# Altium integrated library Linear Technology Power Management Power Control.IntLib: 661 symbols (part 3 of 43)
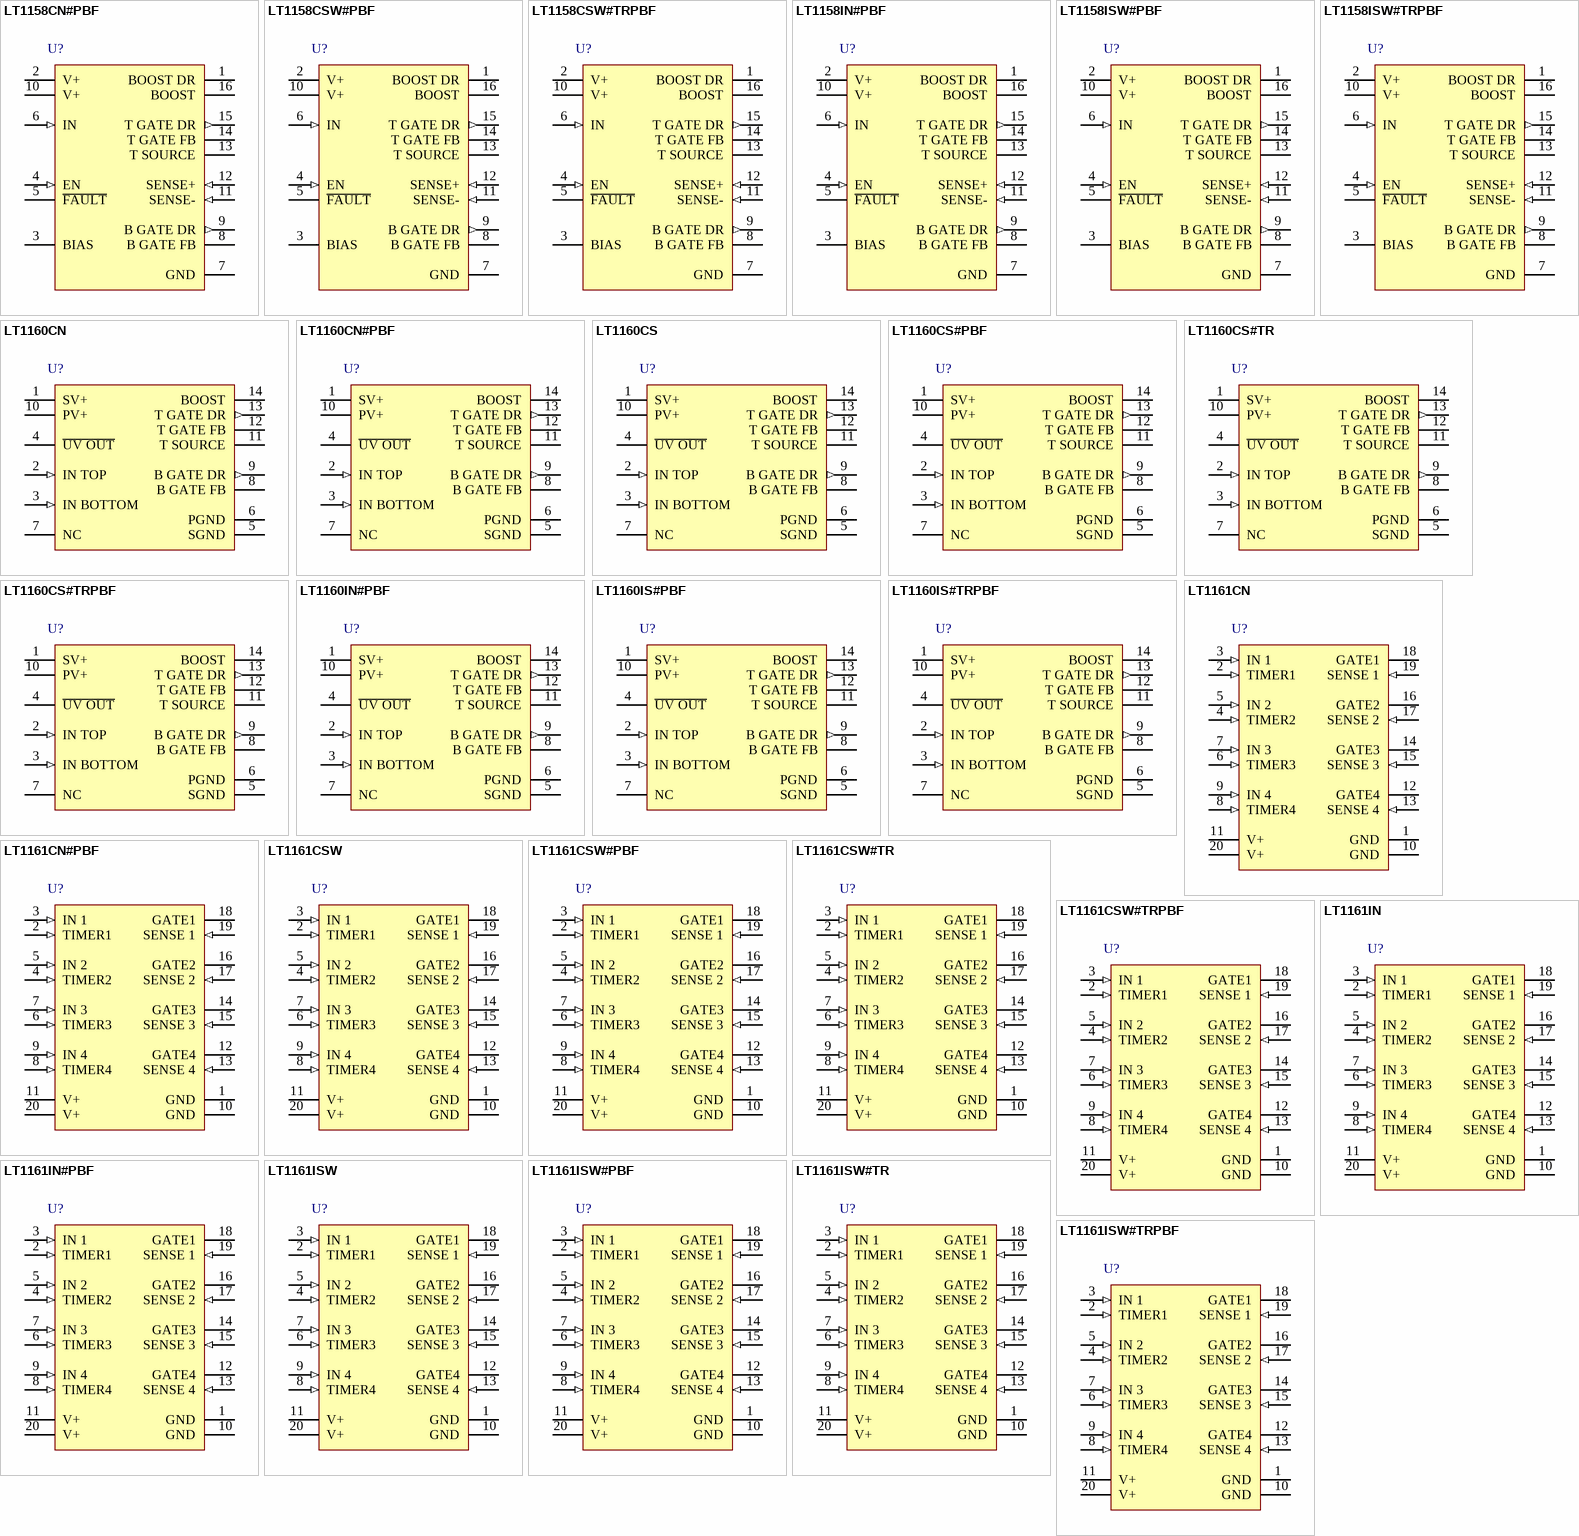
[diagram p21: symbols LT1158CN#PBF to LT1161ISW#TRPBF]

## LT1161ISW
designator U?
Quad Protected High-Side MOSFET Driver, 8 to 48 V Vin, 20-pin SOIC (SW-20), -40 to 85 degC; Manufacturer: Linear Technology; PartNumber: LT1161ISW; DatasheetVersion: Rev. A; PackageVersion: Jun-10; PackageReference: SW-20; PackageDescription: 20-Pin Plastic Small Outline, Body 12.80 x 7.49 mm, Pitch 1.27 mm; Supplier 1: Digi-Key; Supplier Part Number 1: LT1161ISW-ND; RoHS: FALSE; Mounting Technology: Surface Mount; ComponentLink1Description: Manufacturer URL; ComponentLink1URL: http://www.linear.com/; ComponentLink2Description: Datasheet; ComponentLink2URL: http://cds.linear.com/docs/en/datasheet/1161fa.pdf; ComponentLink3Description: Package Specification; ComponentLink3URL: http://cds.linear.com/docs/en/packaging/SO_20_05-08-1620.pdf
footprint LT-SW-20_N (SOIC, 20-Leads, Body 12.8x7.49mm, Pitch 1.27mm, IPC Medium Density)
footprint LT-SW-20_L (SOIC, 20-Leads, Body 12.8x7.49mm, Pitch 1.27mm, IPC High Density)
footprint LT-SW-20_M (SOIC, 20-Leads, Body 12.8x7.49mm, Pitch 1.27mm, IPC Low Density)
pins: 1 GND (power) "The two ground pins are internally connected and must also be externally connected.", 2 TIMER1 (in) "A timing capacitor CT from each timer pin to ground sets the restart time following overcurrent detection. CT is rapidly discharged to less than 1V and then recharged by a 14uA nominal current source back to the timer (See Datasheet)", 3 IN 1 (in) "The input pins are active high and each pin activates a separate internal charge pump when switched ON. The input threshold is TTL/CMOS compatible but may be taken as high as 15V with or without the supply powered. Each (See Datasheet)", 4 TIMER2 (in) "A timing capacitor CT from each timer pin to ground sets the restart time following overcurrent detection. CT is rapidly discharged to less than 1V and then recharged by a 14uA nominal current source back to the timer (See Datasheet)", 5 IN 2 (in) "The input pins are active high and each pin activates a separate internal charge pump when switched ON. The input threshold is TTL/CMOS compatible but may be taken as high as 15V with or without the supply powered. Each (See Datasheet)", 6 TIMER3 (in) "A timing capacitor CT from each timer pin to ground sets the restart time following overcurrent detection. CT is rapidly discharged to less than 1V and then recharged by a 14uA nominal current source back to the timer (See Datasheet)", 7 IN 3 (in) "The input pins are active high and each pin activates a separate internal charge pump when switched ON. The input threshold is TTL/CMOS compatible but may be taken as high as 15V with or without the supply powered. Each (See Datasheet)", 8 TIMER4 (in) "A timing capacitor CT from each timer pin to ground sets the restart time following overcurrent detection. CT is rapidly discharged to less than 1V and then recharged by a 14uA nominal current source back to the timer (See Datasheet)", 9 IN 4 (in) "The input pins are active high and each pin activates a separate internal charge pump when switched ON. The input threshold is TTL/CMOS compatible but may be taken as high as 15V with or without the supply powered. Each (See Datasheet)", 10 GND (power) "The two ground pins are internally connected and must also be externally connected.", 11 V+ (power) "The two supply pins are internally connected and must also be externally connected. In addition to providing the operating current for the LT1161, the supply pins also serve as the Kelvin connection for the current sense (See Datasheet)", 12 GATE4 (hiz) "The gate pins drive the power MOSFET gates. When an input is ON, the corresponding gate pin is pumped approximately 12V above the supply. These pins have a relatively high impedance when above the rail (theequivalent of a (See Datasheet)", 13 SENSE 4 (in) "Each sense pin connects to the input of asupply-referenced comparator with a 65mV nominal offset. When a sense pin is taken more than 65mV below supply, the MOSFET gate for that channel is driven low and the corresponding (See Datasheet)", 14 GATE3 (hiz) "The gate pins drive the power MOSFET gates. When an input is ON, the corresponding gate pin is pumped approximately 12V above the supply. These pins have a relatively high impedance when above the rail (theequivalent of a (See Datasheet)", 15 SENSE 3 (in) "Each sense pin connects to the input of asupply-referenced comparator with a 65mV nominal offset. When a sense pin is taken more than 65mV below supply, the MOSFET gate for that channel is driven low and the corresponding (See Datasheet)", 16 GATE2 (hiz) "The gate pins drive the power MOSFET gates. When an input is ON, the corresponding gate pin is pumped approximately 12V above the supply. These pins have a relatively high impedance when above the rail (theequivalent of a (See Datasheet)", 17 SENSE 2 (in) "Each sense pin connects to the input of asupply-referenced comparator with a 65mV nominal offset. When a sense pin is taken more than 65mV below supply, the MOSFET gate for that channel is driven low and the corresponding (See Datasheet)", 18 GATE1 (hiz) "The gate pins drive the power MOSFET gates. When an input is ON, the corresponding gate pin is pumped approximately 12V above the supply. These pins have a relatively high impedance when above the rail (theequivalent of a (See Datasheet)", 19 SENSE 1 (in) "Each sense pin connects to the input of asupply-referenced comparator with a 65mV nominal offset. When a sense pin is taken more than 65mV below supply, the MOSFET gate for that channel is driven low and the corresponding (See Datasheet)", 20 V+ (power) "The two supply pins are internally connected and must also be externally connected. In addition to providing the operating current for the LT1161, the supply pins also serve as the Kelvin connection for the current sense (See Datasheet)"

## LT1161ISW#PBF
designator U?
Quad Protected High-Side MOSFET Driver, 8 to 48 V Vin, 20-pin SOIC (SW-20), -40 to 85 degC, Pb-Free; Manufacturer: Linear Technology; PartNumber: LT1161ISW#PBF; DatasheetVersion: Rev. A; PackageVersion: Jun-10; PackageReference: SW-20; PackageDescription: 20-Pin Plastic Small Outline, Body 12.80 x 7.49 mm, Pitch 1.27 mm; Supplier 1: Digi-Key; Supplier Part Number 1: LT1161ISW#PBF-ND; Supplier 2: Farnell; Supplier Part Number 2: 2115820; Supplier 3: Newark; Supplier Part Number 3: 57M2271; RoHS: TRUE; Mounting Technology: Surface Mount; ComponentLink1Description: Manufacturer URL; ComponentLink1URL: http://www.linear.com/; ComponentLink2Description: Datasheet; ComponentLink2URL: http://cds.linear.com/docs/en/datasheet/1161fa.pdf; ComponentLink3Description: Package Specification; ComponentLink3URL: http://cds.linear.com/docs/en/packaging/SO_20_05-08-1620.pdf
footprint LT-SW-20_N (SOIC, 20-Leads, Body 12.8x7.49mm, Pitch 1.27mm, IPC Medium Density)
footprint LT-SW-20_L (SOIC, 20-Leads, Body 12.8x7.49mm, Pitch 1.27mm, IPC High Density)
footprint LT-SW-20_M (SOIC, 20-Leads, Body 12.8x7.49mm, Pitch 1.27mm, IPC Low Density)
pins: 1 GND (power) "The two ground pins are internally connected and must also be externally connected.", 2 TIMER1 (in) "A timing capacitor CT from each timer pin to ground sets the restart time following overcurrent detection. CT is rapidly discharged to less than 1V and then recharged by a 14uA nominal current source back to the timer (See Datasheet)", 3 IN 1 (in) "The input pins are active high and each pin activates a separate internal charge pump when switched ON. The input threshold is TTL/CMOS compatible but may be taken as high as 15V with or without the supply powered. Each (See Datasheet)", 4 TIMER2 (in) "A timing capacitor CT from each timer pin to ground sets the restart time following overcurrent detection. CT is rapidly discharged to less than 1V and then recharged by a 14uA nominal current source back to the timer (See Datasheet)", 5 IN 2 (in) "The input pins are active high and each pin activates a separate internal charge pump when switched ON. The input threshold is TTL/CMOS compatible but may be taken as high as 15V with or without the supply powered. Each (See Datasheet)", 6 TIMER3 (in) "A timing capacitor CT from each timer pin to ground sets the restart time following overcurrent detection. CT is rapidly discharged to less than 1V and then recharged by a 14uA nominal current source back to the timer (See Datasheet)", 7 IN 3 (in) "The input pins are active high and each pin activates a separate internal charge pump when switched ON. The input threshold is TTL/CMOS compatible but may be taken as high as 15V with or without the supply powered. Each (See Datasheet)", 8 TIMER4 (in) "A timing capacitor CT from each timer pin to ground sets the restart time following overcurrent detection. CT is rapidly discharged to less than 1V and then recharged by a 14uA nominal current source back to the timer (See Datasheet)", 9 IN 4 (in) "The input pins are active high and each pin activates a separate internal charge pump when switched ON. The input threshold is TTL/CMOS compatible but may be taken as high as 15V with or without the supply powered. Each (See Datasheet)", 10 GND (power) "The two ground pins are internally connected and must also be externally connected.", 11 V+ (power) "The two supply pins are internally connected and must also be externally connected. In addition to providing the operating current for the LT1161, the supply pins also serve as the Kelvin connection for the current sense (See Datasheet)", 12 GATE4 (hiz) "The gate pins drive the power MOSFET gates. When an input is ON, the corresponding gate pin is pumped approximately 12V above the supply. These pins have a relatively high impedance when above the rail (theequivalent of a (See Datasheet)", 13 SENSE 4 (in) "Each sense pin connects to the input of asupply-referenced comparator with a 65mV nominal offset. When a sense pin is taken more than 65mV below supply, the MOSFET gate for that channel is driven low and the corresponding (See Datasheet)", 14 GATE3 (hiz) "The gate pins drive the power MOSFET gates. When an input is ON, the corresponding gate pin is pumped approximately 12V above the supply. These pins have a relatively high impedance when above the rail (theequivalent of a (See Datasheet)", 15 SENSE 3 (in) "Each sense pin connects to the input of asupply-referenced comparator with a 65mV nominal offset. When a sense pin is taken more than 65mV below supply, the MOSFET gate for that channel is driven low and the corresponding (See Datasheet)", 16 GATE2 (hiz) "The gate pins drive the power MOSFET gates. When an input is ON, the corresponding gate pin is pumped approximately 12V above the supply. These pins have a relatively high impedance when above the rail (theequivalent of a (See Datasheet)", 17 SENSE 2 (in) "Each sense pin connects to the input of asupply-referenced comparator with a 65mV nominal offset. When a sense pin is taken more than 65mV below supply, the MOSFET gate for that channel is driven low and the corresponding (See Datasheet)", 18 GATE1 (hiz) "The gate pins drive the power MOSFET gates. When an input is ON, the corresponding gate pin is pumped approximately 12V above the supply. These pins have a relatively high impedance when above the rail (theequivalent of a (See Datasheet)", 19 SENSE 1 (in) "Each sense pin connects to the input of asupply-referenced comparator with a 65mV nominal offset. When a sense pin is taken more than 65mV below supply, the MOSFET gate for that channel is driven low and the corresponding (See Datasheet)", 20 V+ (power) "The two supply pins are internally connected and must also be externally connected. In addition to providing the operating current for the LT1161, the supply pins also serve as the Kelvin connection for the current sense (See Datasheet)"

## LT1161ISW#TR
designator U?
Quad Protected High-Side MOSFET Driver, 8 to 48 V Vin, 20-pin SOIC (SW-20), -40 to 85 degC, Tape and Reel; Manufacturer: Linear Technology; PartNumber: LT1161ISW#TR; DatasheetVersion: Rev. A; PackageVersion: Jun-10; PackageReference: SW-20; PackageDescription: 20-Pin Plastic Small Outline, Body 12.80 x 7.49 mm, Pitch 1.27 mm; Supplier 1: Digi-Key; Supplier Part Number 1: LT1161ISW#TR-ND; Supplier 2: Newark; Supplier Part Number 2: 57M2272; Packing: Tape and Reel; RoHS: FALSE; Mounting Technology: Surface Mount; ComponentLink1Description: Manufacturer URL; ComponentLink1URL: http://www.linear.com/; ComponentLink2Description: Datasheet; ComponentLink2URL: http://cds.linear.com/docs/en/datasheet/1161fa.pdf; ComponentLink3Description: Package Specification; ComponentLink3URL: http://cds.linear.com/docs/en/packaging/SO_20_05-08-1620.pdf
footprint LT-SW-20_N (SOIC, 20-Leads, Body 12.8x7.49mm, Pitch 1.27mm, IPC Medium Density)
footprint LT-SW-20_L (SOIC, 20-Leads, Body 12.8x7.49mm, Pitch 1.27mm, IPC High Density)
footprint LT-SW-20_M (SOIC, 20-Leads, Body 12.8x7.49mm, Pitch 1.27mm, IPC Low Density)
pins: 1 GND (power) "The two ground pins are internally connected and must also be externally connected.", 2 TIMER1 (in) "A timing capacitor CT from each timer pin to ground sets the restart time following overcurrent detection. CT is rapidly discharged to less than 1V and then recharged by a 14uA nominal current source back to the timer (See Datasheet)", 3 IN 1 (in) "The input pins are active high and each pin activates a separate internal charge pump when switched ON. The input threshold is TTL/CMOS compatible but may be taken as high as 15V with or without the supply powered. Each (See Datasheet)", 4 TIMER2 (in) "A timing capacitor CT from each timer pin to ground sets the restart time following overcurrent detection. CT is rapidly discharged to less than 1V and then recharged by a 14uA nominal current source back to the timer (See Datasheet)", 5 IN 2 (in) "The input pins are active high and each pin activates a separate internal charge pump when switched ON. The input threshold is TTL/CMOS compatible but may be taken as high as 15V with or without the supply powered. Each (See Datasheet)", 6 TIMER3 (in) "A timing capacitor CT from each timer pin to ground sets the restart time following overcurrent detection. CT is rapidly discharged to less than 1V and then recharged by a 14uA nominal current source back to the timer (See Datasheet)", 7 IN 3 (in) "The input pins are active high and each pin activates a separate internal charge pump when switched ON. The input threshold is TTL/CMOS compatible but may be taken as high as 15V with or without the supply powered. Each (See Datasheet)", 8 TIMER4 (in) "A timing capacitor CT from each timer pin to ground sets the restart time following overcurrent detection. CT is rapidly discharged to less than 1V and then recharged by a 14uA nominal current source back to the timer (See Datasheet)", 9 IN 4 (in) "The input pins are active high and each pin activates a separate internal charge pump when switched ON. The input threshold is TTL/CMOS compatible but may be taken as high as 15V with or without the supply powered. Each (See Datasheet)", 10 GND (power) "The two ground pins are internally connected and must also be externally connected.", 11 V+ (power) "The two supply pins are internally connected and must also be externally connected. In addition to providing the operating current for the LT1161, the supply pins also serve as the Kelvin connection for the current sense (See Datasheet)", 12 GATE4 (hiz) "The gate pins drive the power MOSFET gates. When an input is ON, the corresponding gate pin is pumped approximately 12V above the supply. These pins have a relatively high impedance when above the rail (theequivalent of a (See Datasheet)", 13 SENSE 4 (in) "Each sense pin connects to the input of asupply-referenced comparator with a 65mV nominal offset. When a sense pin is taken more than 65mV below supply, the MOSFET gate for that channel is driven low and the corresponding (See Datasheet)", 14 GATE3 (hiz) "The gate pins drive the power MOSFET gates. When an input is ON, the corresponding gate pin is pumped approximately 12V above the supply. These pins have a relatively high impedance when above the rail (theequivalent of a (See Datasheet)", 15 SENSE 3 (in) "Each sense pin connects to the input of asupply-referenced comparator with a 65mV nominal offset. When a sense pin is taken more than 65mV below supply, the MOSFET gate for that channel is driven low and the corresponding (See Datasheet)", 16 GATE2 (hiz) "The gate pins drive the power MOSFET gates. When an input is ON, the corresponding gate pin is pumped approximately 12V above the supply. These pins have a relatively high impedance when above the rail (theequivalent of a (See Datasheet)", 17 SENSE 2 (in) "Each sense pin connects to the input of asupply-referenced comparator with a 65mV nominal offset. When a sense pin is taken more than 65mV below supply, the MOSFET gate for that channel is driven low and the corresponding (See Datasheet)", 18 GATE1 (hiz) "The gate pins drive the power MOSFET gates. When an input is ON, the corresponding gate pin is pumped approximately 12V above the supply. These pins have a relatively high impedance when above the rail (theequivalent of a (See Datasheet)", 19 SENSE 1 (in) "Each sense pin connects to the input of asupply-referenced comparator with a 65mV nominal offset. When a sense pin is taken more than 65mV below supply, the MOSFET gate for that channel is driven low and the corresponding (See Datasheet)", 20 V+ (power) "The two supply pins are internally connected and must also be externally connected. In addition to providing the operating current for the LT1161, the supply pins also serve as the Kelvin connection for the current sense (See Datasheet)"

## LT1161ISW#TRPBF
designator U?
Quad Protected High-Side MOSFET Driver, 8 to 48 V Vin, 20-pin SOIC (SW-20), -40 to 85 degC, Pb-Free, Tape and Reel; Manufacturer: Linear Technology; PartNumber: LT1161ISW#TRPBF; DatasheetVersion: Rev. A; PackageVersion: Jun-10; PackageReference: SW-20; PackageDescription: 20-Pin Plastic Small Outline, Body 12.80 x 7.49 mm, Pitch 1.27 mm; Supplier 1: Digi-Key; Supplier Part Number 1: LT1161ISW#TRPBF-ND; Supplier 2: Newark; Supplier Part Number 2: 57M2273; Packing: Tape and Reel; RoHS: TRUE; Mounting Technology: Surface Mount; ComponentLink1Description: Manufacturer URL; ComponentLink1URL: http://www.linear.com/; ComponentLink2Description: Datasheet; ComponentLink2URL: http://cds.linear.com/docs/en/datasheet/1161fa.pdf; ComponentLink3Description: Package Specification; ComponentLink3URL: http://cds.linear.com/docs/en/packaging/SO_20_05-08-1620.pdf
footprint LT-SW-20_N (SOIC, 20-Leads, Body 12.8x7.49mm, Pitch 1.27mm, IPC Medium Density)
footprint LT-SW-20_L (SOIC, 20-Leads, Body 12.8x7.49mm, Pitch 1.27mm, IPC High Density)
footprint LT-SW-20_M (SOIC, 20-Leads, Body 12.8x7.49mm, Pitch 1.27mm, IPC Low Density)
pins: 1 GND (power) "The two ground pins are internally connected and must also be externally connected.", 2 TIMER1 (in) "A timing capacitor CT from each timer pin to ground sets the restart time following overcurrent detection. CT is rapidly discharged to less than 1V and then recharged by a 14uA nominal current source back to the timer (See Datasheet)", 3 IN 1 (in) "The input pins are active high and each pin activates a separate internal charge pump when switched ON. The input threshold is TTL/CMOS compatible but may be taken as high as 15V with or without the supply powered. Each (See Datasheet)", 4 TIMER2 (in) "A timing capacitor CT from each timer pin to ground sets the restart time following overcurrent detection. CT is rapidly discharged to less than 1V and then recharged by a 14uA nominal current source back to the timer (See Datasheet)", 5 IN 2 (in) "The input pins are active high and each pin activates a separate internal charge pump when switched ON. The input threshold is TTL/CMOS compatible but may be taken as high as 15V with or without the supply powered. Each (See Datasheet)", 6 TIMER3 (in) "A timing capacitor CT from each timer pin to ground sets the restart time following overcurrent detection. CT is rapidly discharged to less than 1V and then recharged by a 14uA nominal current source back to the timer (See Datasheet)", 7 IN 3 (in) "The input pins are active high and each pin activates a separate internal charge pump when switched ON. The input threshold is TTL/CMOS compatible but may be taken as high as 15V with or without the supply powered. Each (See Datasheet)", 8 TIMER4 (in) "A timing capacitor CT from each timer pin to ground sets the restart time following overcurrent detection. CT is rapidly discharged to less than 1V and then recharged by a 14uA nominal current source back to the timer (See Datasheet)", 9 IN 4 (in) "The input pins are active high and each pin activates a separate internal charge pump when switched ON. The input threshold is TTL/CMOS compatible but may be taken as high as 15V with or without the supply powered. Each (See Datasheet)", 10 GND (power) "The two ground pins are internally connected and must also be externally connected.", 11 V+ (power) "The two supply pins are internally connected and must also be externally connected. In addition to providing the operating current for the LT1161, the supply pins also serve as the Kelvin connection for the current sense (See Datasheet)", 12 GATE4 (hiz) "The gate pins drive the power MOSFET gates. When an input is ON, the corresponding gate pin is pumped approximately 12V above the supply. These pins have a relatively high impedance when above the rail (theequivalent of a (See Datasheet)", 13 SENSE 4 (in) "Each sense pin connects to the input of asupply-referenced comparator with a 65mV nominal offset. When a sense pin is taken more than 65mV below supply, the MOSFET gate for that channel is driven low and the corresponding (See Datasheet)", 14 GATE3 (hiz) "The gate pins drive the power MOSFET gates. When an input is ON, the corresponding gate pin is pumped approximately 12V above the supply. These pins have a relatively high impedance when above the rail (theequivalent of a (See Datasheet)", 15 SENSE 3 (in) "Each sense pin connects to the input of asupply-referenced comparator with a 65mV nominal offset. When a sense pin is taken more than 65mV below supply, the MOSFET gate for that channel is driven low and the corresponding (See Datasheet)", 16 GATE2 (hiz) "The gate pins drive the power MOSFET gates. When an input is ON, the corresponding gate pin is pumped approximately 12V above the supply. These pins have a relatively high impedance when above the rail (theequivalent of a (See Datasheet)", 17 SENSE 2 (in) "Each sense pin connects to the input of asupply-referenced comparator with a 65mV nominal offset. When a sense pin is taken more than 65mV below supply, the MOSFET gate for that channel is driven low and the corresponding (See Datasheet)", 18 GATE1 (hiz) "The gate pins drive the power MOSFET gates. When an input is ON, the corresponding gate pin is pumped approximately 12V above the supply. These pins have a relatively high impedance when above the rail (theequivalent of a (See Datasheet)", 19 SENSE 1 (in) "Each sense pin connects to the input of asupply-referenced comparator with a 65mV nominal offset. When a sense pin is taken more than 65mV below supply, the MOSFET gate for that channel is driven low and the corresponding (See Datasheet)", 20 V+ (power) "The two supply pins are internally connected and must also be externally connected. In addition to providing the operating current for the LT1161, the supply pins also serve as the Kelvin connection for the current sense (See Datasheet)"

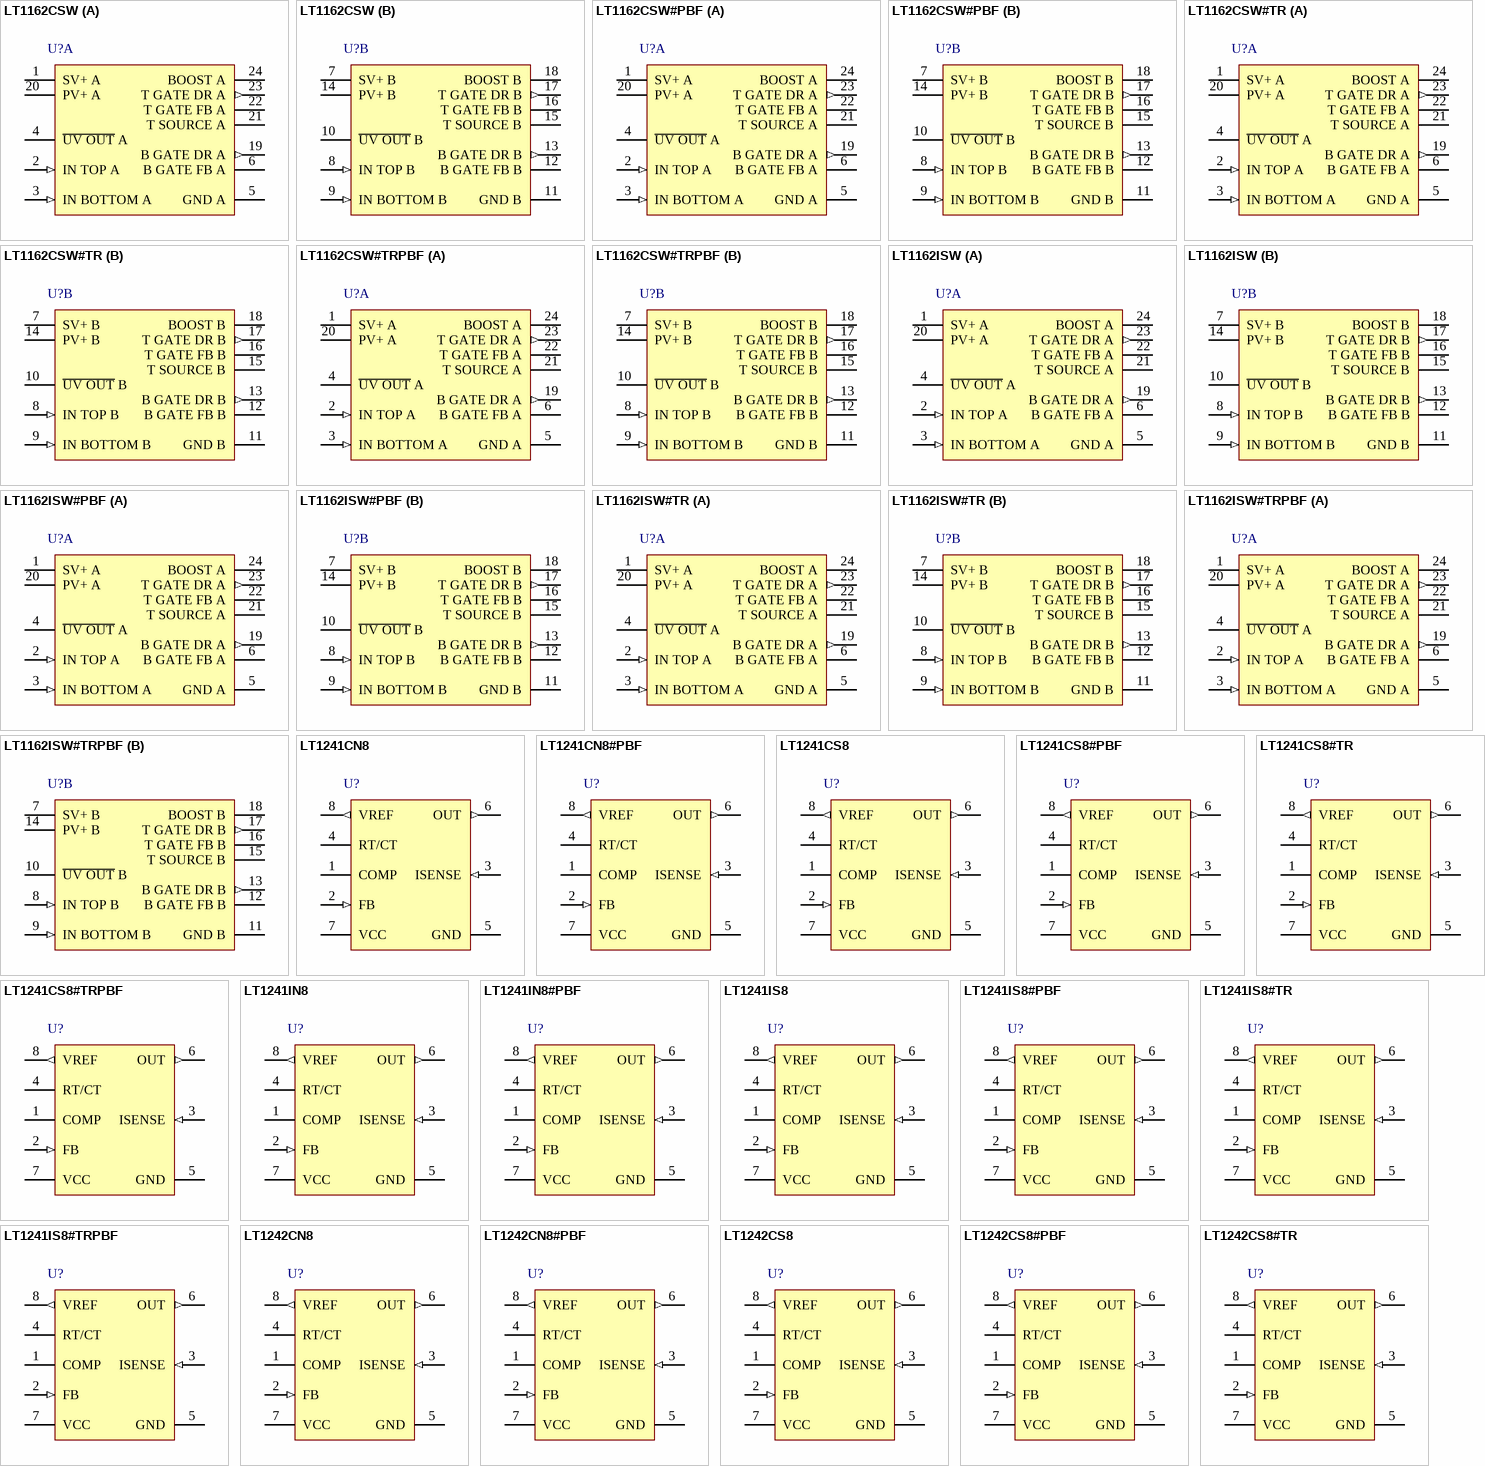
[diagram p1: symbols LT1162CSW to LT1242CS8#TR]

## LT1162CSW
designator U?
Input UV Lockout, High Side Gate Drive UV Lockout, 8 to 60 V Vin, 24-pin SOIC (SW-24), 0 to 70 degC; Manufacturer: Linear Technology; PartNumber: LT1162CSW; DatasheetVersion: Rev. B; PackageVersion: Jun-10; PackageReference: SW-24; PackageDescription: 24-Pin Plastic Small Outline, Body 15.395 x 7.493 mm, Pitch 1.27 mm; Supplier 1: Digi-Key; Supplier Part Number 1: LT1162CSW-ND; RoHS: FALSE; Mounting Technology: Surface Mount; ComponentLink1Description: Manufacturer URL; ComponentLink1URL: http://www.linear.com/; ComponentLink2Description: Datasheet; ComponentLink2URL: http://cds.linear.com/docs/en/datasheet/11602fb.pdf; ComponentLink3Description: Package Specification; ComponentLink3URL: http://cds.linear.com/docs/Packaging/SO_24_05-08-1620.pdf
footprint LT-SW-24_N (SOIC, 24-Leads, Body 15.6x7.6mm, Pitch 1.27mm, IPC Medium Density)
footprint LT-SW-24_L (SOIC, 24-Leads, Body 15.6x7.6mm, Pitch 1.27mm, IPC High Density)
footprint LT-SW-24_M (SOIC, 24-Leads, Body 15.6x7.6mm, Pitch 1.27mm, IPC Low Density)
part A pins: 1 SV+ A (power) "Main Signal Supply. Must be closely decoupled to ground Pins 5 and 11.", 2 IN TOP A (in) "Top Driver Input. The Input Top is disabled when the Input Bottom is high. A 3 k input resistor followed by a 5 V internal clamp prevents saturation of the input transistors.", 3 IN BOTTOM A (in) "Bottom Driver Input. The Input Bottom is disabled when the Input Top is high. A 3 k input resistor followed by a 5 V internal clamp prevents satura- tion of the input transistors.", 4 ~{UV OUT} A (oc) "Undervoltage Output. Open collector NPN output which turns on when V+ drops below the undervoltage threshold.", 5 GND A (power) "Ground Connection.", 6 B GATE FB A "Bottom Gate Feedback. Must connect directly to the bottom power MOSFET gate. The top MOSFET turn-on is inhibited until Bottom Gate Feed- back pins have discharged to below 2.5 V.", 19 B GATE DR A (out) "Bottom Gate Drive. The high current drive point for the bottom MOSFET. When a gate resistor is used it is inserted between the Bottom Gate Drive pin and the gate of the MOSFET.", 20 PV+ A (power) "Bottom Driver Supply. Must be con- nected to the same supply as Pins 1 and 7.", 21 T SOURCE A "Top Driver Return. Connects to the top MOSFET source and the low side of the bootstrap capacitor.", 22 T GATE FB A "Top Gate Feedback. Must connect directly to the top power MOSFET gate. The bottom MOSFET turn-on is inhibited until V TGF  - V TSOURCE has discharged to below 2.9 V.", 23 T GATE DR A (out) "Top Gate Drive. The high current drive point for the top MOSFET. When a gate resistor is used it is inserted between the Top Gate Drive pin and the gate of the MOSFET.", 24 BOOST A "Top Driver Supply. Connects to the high side of the bootstrap capacitor."
part B pins: 7 SV+ B (power) "Main Signal Supply. Must be closely decoupled to ground Pins 5 and 11.", 8 IN TOP B (in) "Top Driver Input. The Input Top is disabled when the Input Bottom is high. A 3 k input resistor followed by a 5 V internal clamp prevents saturation of the input transistors.", 9 IN BOTTOM B (in) "Bottom Driver Input. The Input Bottom is disabled when the Input Top is high. A 3 k input resistor followed by a 5 V internal clamp prevents satura- tion of the input transistors.", 10 ~{UV OUT} B (oc) "Undervoltage Output. Open collector NPN output which turns on when V+ drops below the undervoltage threshold.", 11 GND B (power) "Ground Connection.", 12 B GATE FB B "Bottom Gate Feedback. Must connect directly to the bottom power MOSFET gate. The top MOSFET turn-on is inhibited until Bottom Gate Feed- back pins have discharged to below 2.5 V.", 13 B GATE DR B (out) "Bottom Gate Drive. The high current drive point for the bottom MOSFET. When a gate resistor is used it is inserted between the Bottom Gate Drive pin and the gate of the MOSFET.", 14 PV+ B (power) "Bottom Driver Supply. Must be con- nected to the same supply as Pins 1 and 7.", 15 T SOURCE B "Top Driver Return. Connects to the top MOSFET source and the low side of the bootstrap capacitor.", 16 T GATE FB B "Top Gate Feedback. Must connect directly to the top power MOSFET gate. The bottom MOSFET turn-on is inhibited until V TGF  - V TSOURCE has discharged to below 2.9 V.", 17 T GATE DR B (out) "Top Gate Drive. The high current drive point for the top MOSFET. When a gate resistor is used it is inserted between the Top Gate Drive pin and the gate of the MOSFET.", 18 BOOST B "Top Driver Supply. Connects to the high side of the bootstrap capacitor."

## LT1162CSW#PBF
designator U?
Input UV Lockout, High Side Gate Drive UV Lockout, 8 to 60 V Vin, 24-pin SOIC (SW-24), 0 to 70 degC, Pb-Free; Manufacturer: Linear Technology; PartNumber: LT1162CSW#PBF; DatasheetVersion: Rev. B; PackageVersion: Jun-10; PackageReference: SW-24; PackageDescription: 24-Pin Plastic Small Outline, Body 15.395 x 7.493 mm, Pitch 1.27 mm; Supplier 1: Digi-Key; Supplier Part Number 1: LT1162CSW#PBF-ND; Supplier 2: Farnell; Supplier Part Number 2: 1273477; Supplier 3: Newark; Supplier Part Number 3: 57M2275; RoHS: TRUE; Mounting Technology: Surface Mount; ComponentLink1Description: Manufacturer URL; ComponentLink1URL: http://www.linear.com/; ComponentLink2Description: Datasheet; ComponentLink2URL: http://cds.linear.com/docs/en/datasheet/11602fb.pdf; ComponentLink3Description: Package Specification; ComponentLink3URL: http://cds.linear.com/docs/Packaging/SO_24_05-08-1620.pdf
footprint LT-SW-24_N (SOIC, 24-Leads, Body 15.6x7.6mm, Pitch 1.27mm, IPC Medium Density)
footprint LT-SW-24_L (SOIC, 24-Leads, Body 15.6x7.6mm, Pitch 1.27mm, IPC High Density)
footprint LT-SW-24_M (SOIC, 24-Leads, Body 15.6x7.6mm, Pitch 1.27mm, IPC Low Density)
part A pins: 1 SV+ A (power) "Main Signal Supply. Must be closely decoupled to ground Pins 5 and 11.", 2 IN TOP A (in) "Top Driver Input. The Input Top is disabled when the Input Bottom is high. A 3 k input resistor followed by a 5 V internal clamp prevents saturation of the input transistors.", 3 IN BOTTOM A (in) "Bottom Driver Input. The Input Bottom is disabled when the Input Top is high. A 3 k input resistor followed by a 5 V internal clamp prevents satura- tion of the input transistors.", 4 ~{UV OUT} A (oc) "Undervoltage Output. Open collector NPN output which turns on when V+ drops below the undervoltage threshold.", 5 GND A (power) "Ground Connection.", 6 B GATE FB A "Bottom Gate Feedback. Must connect directly to the bottom power MOSFET gate. The top MOSFET turn-on is inhibited until Bottom Gate Feed- back pins have discharged to below 2.5 V.", 19 B GATE DR A (out) "Bottom Gate Drive. The high current drive point for the bottom MOSFET. When a gate resistor is used it is inserted between the Bottom Gate Drive pin and the gate of the MOSFET.", 20 PV+ A (power) "Bottom Driver Supply. Must be con- nected to the same supply as Pins 1 and 7.", 21 T SOURCE A "Top Driver Return. Connects to the top MOSFET source and the low side of the bootstrap capacitor.", 22 T GATE FB A "Top Gate Feedback. Must connect directly to the top power MOSFET gate. The bottom MOSFET turn-on is inhibited until V TGF  - V TSOURCE has discharged to below 2.9 V.", 23 T GATE DR A (out) "Top Gate Drive. The high current drive point for the top MOSFET. When a gate resistor is used it is inserted between the Top Gate Drive pin and the gate of the MOSFET.", 24 BOOST A "Top Driver Supply. Connects to the high side of the bootstrap capacitor."
part B pins: 7 SV+ B (power) "Main Signal Supply. Must be closely decoupled to ground Pins 5 and 11.", 8 IN TOP B (in) "Top Driver Input. The Input Top is disabled when the Input Bottom is high. A 3 k input resistor followed by a 5 V internal clamp prevents saturation of the input transistors.", 9 IN BOTTOM B (in) "Bottom Driver Input. The Input Bottom is disabled when the Input Top is high. A 3 k input resistor followed by a 5 V internal clamp prevents satura- tion of the input transistors.", 10 ~{UV OUT} B (oc) "Undervoltage Output. Open collector NPN output which turns on when V+ drops below the undervoltage threshold.", 11 GND B (power) "Ground Connection.", 12 B GATE FB B "Bottom Gate Feedback. Must connect directly to the bottom power MOSFET gate. The top MOSFET turn-on is inhibited until Bottom Gate Feed- back pins have discharged to below 2.5 V.", 13 B GATE DR B (out) "Bottom Gate Drive. The high current drive point for the bottom MOSFET. When a gate resistor is used it is inserted between the Bottom Gate Drive pin and the gate of the MOSFET.", 14 PV+ B (power) "Bottom Driver Supply. Must be con- nected to the same supply as Pins 1 and 7.", 15 T SOURCE B "Top Driver Return. Connects to the top MOSFET source and the low side of the bootstrap capacitor.", 16 T GATE FB B "Top Gate Feedback. Must connect directly to the top power MOSFET gate. The bottom MOSFET turn-on is inhibited until V TGF  - V TSOURCE has discharged to below 2.9 V.", 17 T GATE DR B (out) "Top Gate Drive. The high current drive point for the top MOSFET. When a gate resistor is used it is inserted between the Top Gate Drive pin and the gate of the MOSFET.", 18 BOOST B "Top Driver Supply. Connects to the high side of the bootstrap capacitor."

## LT1162CSW#TR
designator U?
Input UV Lockout, High Side Gate Drive UV Lockout, 8 to 60 V Vin, 24-pin SOIC (SW-24), 0 to 70 degC, Tape and Reel; Manufacturer: Linear Technology; PartNumber: LT1162CSW#TR; DatasheetVersion: Rev. B; PackageVersion: Jun-10; PackageReference: SW-24; PackageDescription: 24-Pin Plastic Small Outline, Body 15.395 x 7.493 mm, Pitch 1.27 mm; Supplier 1: Digi-Key; Supplier Part Number 1: LT1162CSW#TR-ND; Packing: Tape and Reel; RoHS: FALSE; Mounting Technology: Surface Mount; ComponentLink1Description: Manufacturer URL; ComponentLink1URL: http://www.linear.com/; ComponentLink2Description: Datasheet; ComponentLink2URL: http://cds.linear.com/docs/en/datasheet/11602fb.pdf; ComponentLink3Description: Package Specification; ComponentLink3URL: http://cds.linear.com/docs/Packaging/SO_24_05-08-1620.pdf
footprint LT-SW-24_N (SOIC, 24-Leads, Body 15.6x7.6mm, Pitch 1.27mm, IPC Medium Density)
footprint LT-SW-24_L (SOIC, 24-Leads, Body 15.6x7.6mm, Pitch 1.27mm, IPC High Density)
footprint LT-SW-24_M (SOIC, 24-Leads, Body 15.6x7.6mm, Pitch 1.27mm, IPC Low Density)
part A pins: 1 SV+ A (power) "Main Signal Supply. Must be closely decoupled to ground Pins 5 and 11.", 2 IN TOP A (in) "Top Driver Input. The Input Top is disabled when the Input Bottom is high. A 3 k input resistor followed by a 5 V internal clamp prevents saturation of the input transistors.", 3 IN BOTTOM A (in) "Bottom Driver Input. The Input Bottom is disabled when the Input Top is high. A 3 k input resistor followed by a 5 V internal clamp prevents satura- tion of the input transistors.", 4 ~{UV OUT} A (oc) "Undervoltage Output. Open collector NPN output which turns on when V+ drops below the undervoltage threshold.", 5 GND A (power) "Ground Connection.", 6 B GATE FB A "Bottom Gate Feedback. Must connect directly to the bottom power MOSFET gate. The top MOSFET turn-on is inhibited until Bottom Gate Feed- back pins have discharged to below 2.5 V.", 19 B GATE DR A (out) "Bottom Gate Drive. The high current drive point for the bottom MOSFET. When a gate resistor is used it is inserted between the Bottom Gate Drive pin and the gate of the MOSFET.", 20 PV+ A (power) "Bottom Driver Supply. Must be con- nected to the same supply as Pins 1 and 7.", 21 T SOURCE A "Top Driver Return. Connects to the top MOSFET source and the low side of the bootstrap capacitor.", 22 T GATE FB A "Top Gate Feedback. Must connect directly to the top power MOSFET gate. The bottom MOSFET turn-on is inhibited until V TGF  - V TSOURCE has discharged to below 2.9 V.", 23 T GATE DR A (out) "Top Gate Drive. The high current drive point for the top MOSFET. When a gate resistor is used it is inserted between the Top Gate Drive pin and the gate of the MOSFET.", 24 BOOST A "Top Driver Supply. Connects to the high side of the bootstrap capacitor."
part B pins: 7 SV+ B (power) "Main Signal Supply. Must be closely decoupled to ground Pins 5 and 11.", 8 IN TOP B (in) "Top Driver Input. The Input Top is disabled when the Input Bottom is high. A 3 k input resistor followed by a 5 V internal clamp prevents saturation of the input transistors.", 9 IN BOTTOM B (in) "Bottom Driver Input. The Input Bottom is disabled when the Input Top is high. A 3 k input resistor followed by a 5 V internal clamp prevents satura- tion of the input transistors.", 10 ~{UV OUT} B (oc) "Undervoltage Output. Open collector NPN output which turns on when V+ drops below the undervoltage threshold.", 11 GND B (power) "Ground Connection.", 12 B GATE FB B "Bottom Gate Feedback. Must connect directly to the bottom power MOSFET gate. The top MOSFET turn-on is inhibited until Bottom Gate Feed- back pins have discharged to below 2.5 V.", 13 B GATE DR B (out) "Bottom Gate Drive. The high current drive point for the bottom MOSFET. When a gate resistor is used it is inserted between the Bottom Gate Drive pin and the gate of the MOSFET.", 14 PV+ B (power) "Bottom Driver Supply. Must be con- nected to the same supply as Pins 1 and 7.", 15 T SOURCE B "Top Driver Return. Connects to the top MOSFET source and the low side of the bootstrap capacitor.", 16 T GATE FB B "Top Gate Feedback. Must connect directly to the top power MOSFET gate. The bottom MOSFET turn-on is inhibited until V TGF  - V TSOURCE has discharged to below 2.9 V.", 17 T GATE DR B (out) "Top Gate Drive. The high current drive point for the top MOSFET. When a gate resistor is used it is inserted between the Top Gate Drive pin and the gate of the MOSFET.", 18 BOOST B "Top Driver Supply. Connects to the high side of the bootstrap capacitor."

## LT1162CSW#TRPBF
designator U?
Input UV Lockout, High Side Gate Drive UV Lockout, 8 to 60 V Vin, 24-pin SOIC (SW-24), 0 to 70 degC, Pb-Free, Tape and Reel; Manufacturer: Linear Technology; PartNumber: LT1162CSW#TRPBF; DatasheetVersion: Rev. B; PackageVersion: Jun-10; PackageReference: SW-24; PackageDescription: 24-Pin Plastic Small Outline, Body 15.395 x 7.493 mm, Pitch 1.27 mm; Supplier 1: Digi-Key; Supplier Part Number 1: LT1162CSW#TRPBF-ND; Supplier 2: Newark; Supplier Part Number 2: 57M2277; Packing: Tape and Reel; RoHS: TRUE; Mounting Technology: Surface Mount; ComponentLink1Description: Manufacturer URL; ComponentLink1URL: http://www.linear.com/; ComponentLink2Description: Datasheet; ComponentLink2URL: http://cds.linear.com/docs/en/datasheet/11602fb.pdf; ComponentLink3Description: Package Specification; ComponentLink3URL: http://cds.linear.com/docs/Packaging/SO_24_05-08-1620.pdf
footprint LT-SW-24_N (SOIC, 24-Leads, Body 15.6x7.6mm, Pitch 1.27mm, IPC Medium Density)
footprint LT-SW-24_L (SOIC, 24-Leads, Body 15.6x7.6mm, Pitch 1.27mm, IPC High Density)
footprint LT-SW-24_M (SOIC, 24-Leads, Body 15.6x7.6mm, Pitch 1.27mm, IPC Low Density)
part A pins: 1 SV+ A (power) "Main Signal Supply. Must be closely decoupled to ground Pins 5 and 11.", 2 IN TOP A (in) "Top Driver Input. The Input Top is disabled when the Input Bottom is high. A 3 k input resistor followed by a 5 V internal clamp prevents saturation of the input transistors.", 3 IN BOTTOM A (in) "Bottom Driver Input. The Input Bottom is disabled when the Input Top is high. A 3 k input resistor followed by a 5 V internal clamp prevents satura- tion of the input transistors.", 4 ~{UV OUT} A (oc) "Undervoltage Output. Open collector NPN output which turns on when V+ drops below the undervoltage threshold.", 5 GND A (power) "Ground Connection.", 6 B GATE FB A "Bottom Gate Feedback. Must connect directly to the bottom power MOSFET gate. The top MOSFET turn-on is inhibited until Bottom Gate Feed- back pins have discharged to below 2.5 V.", 19 B GATE DR A (out) "Bottom Gate Drive. The high current drive point for the bottom MOSFET. When a gate resistor is used it is inserted between the Bottom Gate Drive pin and the gate of the MOSFET.", 20 PV+ A (power) "Bottom Driver Supply. Must be con- nected to the same supply as Pins 1 and 7.", 21 T SOURCE A "Top Driver Return. Connects to the top MOSFET source and the low side of the bootstrap capacitor.", 22 T GATE FB A "Top Gate Feedback. Must connect directly to the top power MOSFET gate. The bottom MOSFET turn-on is inhibited until V TGF  - V TSOURCE has discharged to below 2.9 V.", 23 T GATE DR A (out) "Top Gate Drive. The high current drive point for the top MOSFET. When a gate resistor is used it is inserted between the Top Gate Drive pin and the gate of the MOSFET.", 24 BOOST A "Top Driver Supply. Connects to the high side of the bootstrap capacitor."
part B pins: 7 SV+ B (power) "Main Signal Supply. Must be closely decoupled to ground Pins 5 and 11.", 8 IN TOP B (in) "Top Driver Input. The Input Top is disabled when the Input Bottom is high. A 3 k input resistor followed by a 5 V internal clamp prevents saturation of the input transistors.", 9 IN BOTTOM B (in) "Bottom Driver Input. The Input Bottom is disabled when the Input Top is high. A 3 k input resistor followed by a 5 V internal clamp prevents satura- tion of the input transistors.", 10 ~{UV OUT} B (oc) "Undervoltage Output. Open collector NPN output which turns on when V+ drops below the undervoltage threshold.", 11 GND B (power) "Ground Connection.", 12 B GATE FB B "Bottom Gate Feedback. Must connect directly to the bottom power MOSFET gate. The top MOSFET turn-on is inhibited until Bottom Gate Feed- back pins have discharged to below 2.5 V.", 13 B GATE DR B (out) "Bottom Gate Drive. The high current drive point for the bottom MOSFET. When a gate resistor is used it is inserted between the Bottom Gate Drive pin and the gate of the MOSFET.", 14 PV+ B (power) "Bottom Driver Supply. Must be con- nected to the same supply as Pins 1 and 7.", 15 T SOURCE B "Top Driver Return. Connects to the top MOSFET source and the low side of the bootstrap capacitor.", 16 T GATE FB B "Top Gate Feedback. Must connect directly to the top power MOSFET gate. The bottom MOSFET turn-on is inhibited until V TGF  - V TSOURCE has discharged to below 2.9 V.", 17 T GATE DR B (out) "Top Gate Drive. The high current drive point for the top MOSFET. When a gate resistor is used it is inserted between the Top Gate Drive pin and the gate of the MOSFET.", 18 BOOST B "Top Driver Supply. Connects to the high side of the bootstrap capacitor."

## LT1162ISW
designator U?
Input UV Lockout, High Side Gate Drive UV Lockout, 8 to 60 V Vin, 24-pin SOIC (SW-24), -40 to 85 degC; Manufacturer: Linear Technology; PartNumber: LT1162ISW; DatasheetVersion: Rev. B; PackageVersion: Jun-10; PackageReference: SW-24; PackageDescription: 24-Pin Plastic Small Outline, Body 15.395 x 7.493 mm, Pitch 1.27 mm; Supplier 1: Digi-Key; Supplier Part Number 1: LT1162ISW-ND; RoHS: FALSE; Mounting Technology: Surface Mount; ComponentLink1Description: Manufacturer URL; ComponentLink1URL: http://www.linear.com/; ComponentLink2Description: Datasheet; ComponentLink2URL: http://cds.linear.com/docs/en/datasheet/11602fb.pdf; ComponentLink3Description: Package Specification; ComponentLink3URL: http://cds.linear.com/docs/Packaging/SO_24_05-08-1620.pdf
footprint LT-SW-24_N (SOIC, 24-Leads, Body 15.6x7.6mm, Pitch 1.27mm, IPC Medium Density)
footprint LT-SW-24_L (SOIC, 24-Leads, Body 15.6x7.6mm, Pitch 1.27mm, IPC High Density)
footprint LT-SW-24_M (SOIC, 24-Leads, Body 15.6x7.6mm, Pitch 1.27mm, IPC Low Density)
part A pins: 1 SV+ A (power) "Main Signal Supply. Must be closely decoupled to ground Pins 5 and 11.", 2 IN TOP A (in) "Top Driver Input. The Input Top is disabled when the Input Bottom is high. A 3 k input resistor followed by a 5 V internal clamp prevents saturation of the input transistors.", 3 IN BOTTOM A (in) "Bottom Driver Input. The Input Bottom is disabled when the Input Top is high. A 3 k input resistor followed by a 5 V internal clamp prevents satura- tion of the input transistors.", 4 ~{UV OUT} A (oc) "Undervoltage Output. Open collector NPN output which turns on when V+ drops below the undervoltage threshold.", 5 GND A (power) "Ground Connection.", 6 B GATE FB A "Bottom Gate Feedback. Must connect directly to the bottom power MOSFET gate. The top MOSFET turn-on is inhibited until Bottom Gate Feed- back pins have discharged to below 2.5 V.", 19 B GATE DR A (out) "Bottom Gate Drive. The high current drive point for the bottom MOSFET. When a gate resistor is used it is inserted between the Bottom Gate Drive pin and the gate of the MOSFET.", 20 PV+ A (power) "Bottom Driver Supply. Must be con- nected to the same supply as Pins 1 and 7.", 21 T SOURCE A "Top Driver Return. Connects to the top MOSFET source and the low side of the bootstrap capacitor.", 22 T GATE FB A "Top Gate Feedback. Must connect directly to the top power MOSFET gate. The bottom MOSFET turn-on is inhibited until V TGF  - V TSOURCE has discharged to below 2.9 V.", 23 T GATE DR A (out) "Top Gate Drive. The high current drive point for the top MOSFET. When a gate resistor is used it is inserted between the Top Gate Drive pin and the gate of the MOSFET.", 24 BOOST A "Top Driver Supply. Connects to the high side of the bootstrap capacitor."
part B pins: 7 SV+ B (power) "Main Signal Supply. Must be closely decoupled to ground Pins 5 and 11.", 8 IN TOP B (in) "Top Driver Input. The Input Top is disabled when the Input Bottom is high. A 3 k input resistor followed by a 5 V internal clamp prevents saturation of the input transistors.", 9 IN BOTTOM B (in) "Bottom Driver Input. The Input Bottom is disabled when the Input Top is high. A 3 k input resistor followed by a 5 V internal clamp prevents satura- tion of the input transistors.", 10 ~{UV OUT} B (oc) "Undervoltage Output. Open collector NPN output which turns on when V+ drops below the undervoltage threshold.", 11 GND B (power) "Ground Connection.", 12 B GATE FB B "Bottom Gate Feedback. Must connect directly to the bottom power MOSFET gate. The top MOSFET turn-on is inhibited until Bottom Gate Feed- back pins have discharged to below 2.5 V.", 13 B GATE DR B (out) "Bottom Gate Drive. The high current drive point for the bottom MOSFET. When a gate resistor is used it is inserted between the Bottom Gate Drive pin and the gate of the MOSFET.", 14 PV+ B (power) "Bottom Driver Supply. Must be con- nected to the same supply as Pins 1 and 7.", 15 T SOURCE B "Top Driver Return. Connects to the top MOSFET source and the low side of the bootstrap capacitor.", 16 T GATE FB B "Top Gate Feedback. Must connect directly to the top power MOSFET gate. The bottom MOSFET turn-on is inhibited until V TGF  - V TSOURCE has discharged to below 2.9 V.", 17 T GATE DR B (out) "Top Gate Drive. The high current drive point for the top MOSFET. When a gate resistor is used it is inserted between the Top Gate Drive pin and the gate of the MOSFET.", 18 BOOST B "Top Driver Supply. Connects to the high side of the bootstrap capacitor."